# Altium footprint library lm1117.PcbLib: 1 footprints
Each footprint in its own frame and in the unit in brackets; x right, y up, seen from the top. Pads: shape width x height; smd on the part's side, far side on the other; paste and mask are expansions set on the pad; w line width, h text height; cw(c..) or ccw(c..) is an arc to the next point about the centre after c.
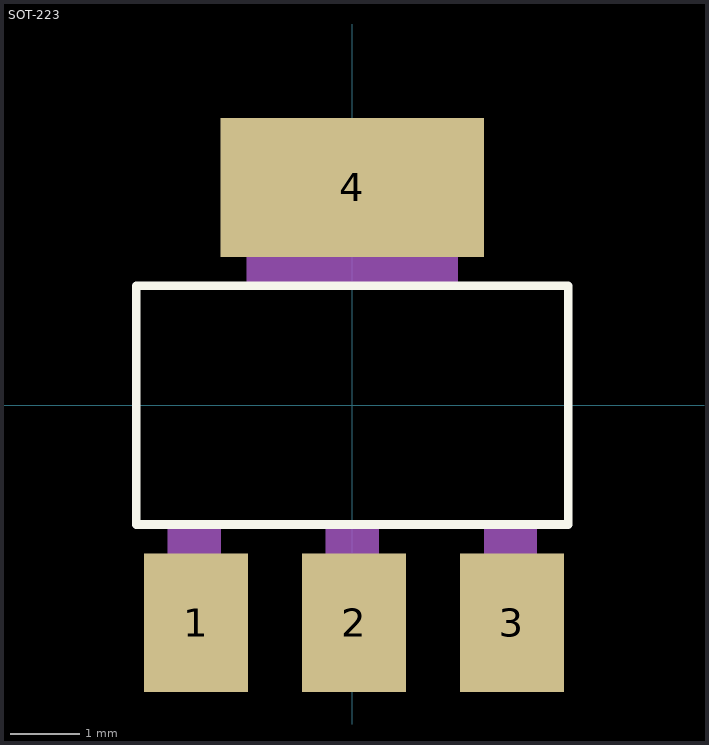
[diagram p0: the footprint, top view; thin cyan lines are the x and y axes]

## SOT-223 [mil]
pads (4):
  rect 59x79 smd: 1(-89,-124) 2(1,-124) 3(91,-124)
  rect 150x79 smd: 4(0,124)
Top Overlay:
  lines w5: -123,-68 123,-68 123,68 -123,68 -123,-68
Mechanical 13:
  region: 15,-130.19 -15.02,-130.19 -15.02,-70 15,-70
  region: 105,-130.12 75.07,-130.12 75.07,-70 105,-70
  region: -75,-130.17 -105.14,-130.17 -105.14,-70 -75,-70
  region: 60,70.14 -60.12,70.14 -60.12,130 60,130
3D body "LM1117-3.3--3DModel-STEP-56544.STEP": height 67.43, standoff -3.43, extent -127.94,-142.75 127.96,132.75